# EAGLE library part XC3S*-144 (library jt-xilinx)
Xilinx Spartan 3E FPGA, 144 pin
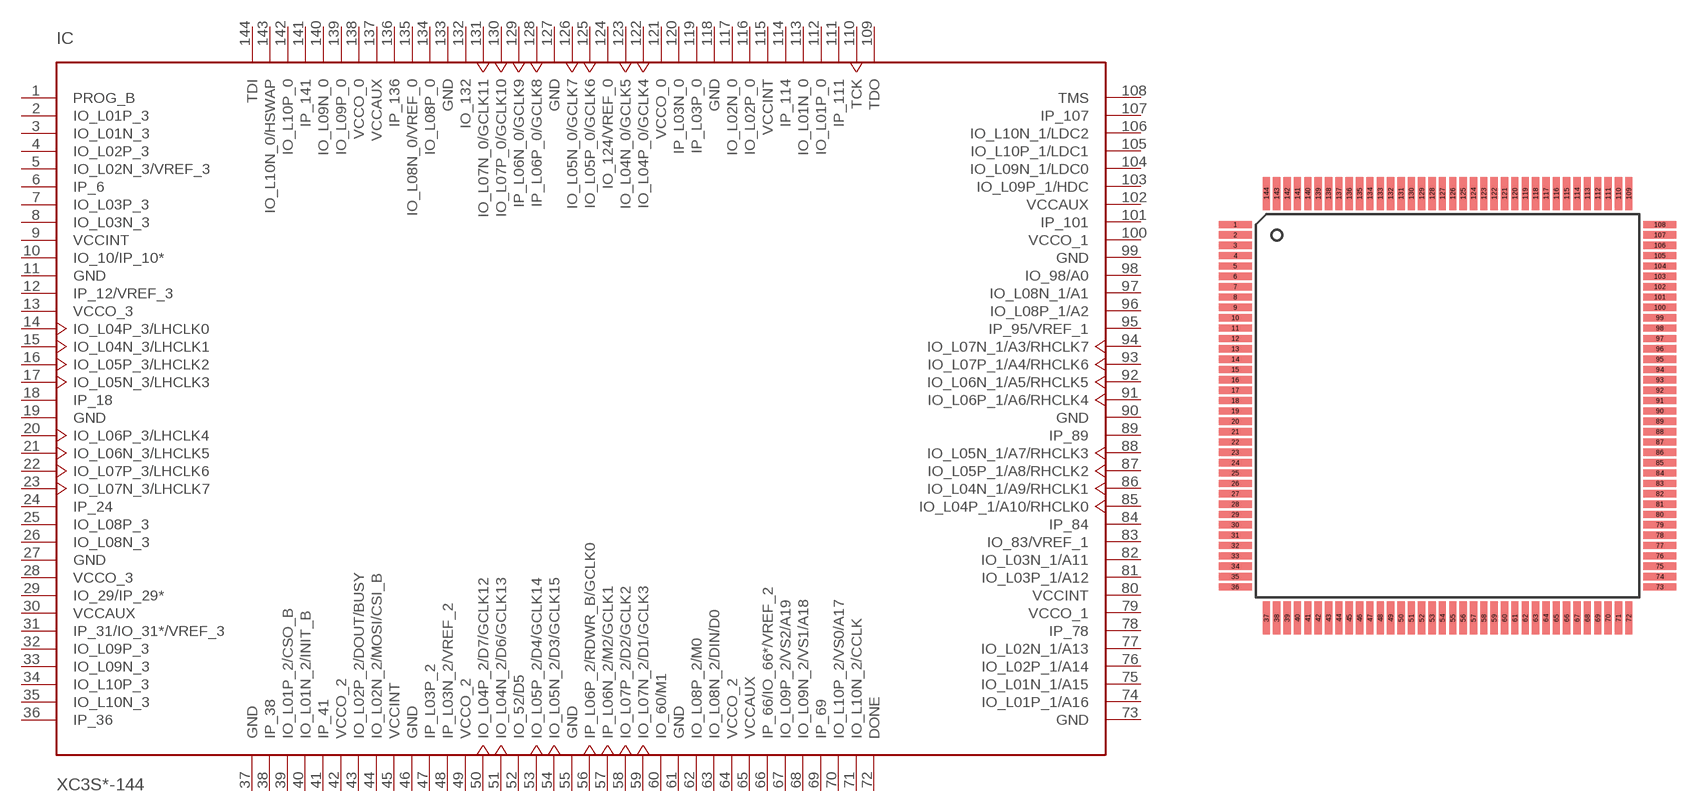
[diagram p0: symbol with the pads of TQ144; footprint TQ144]

Designator prefix IC

## XC3S100E-144, XC3S250E-144  [TQ144]
1  PROG_B
2  IO_L01P_3
3  IO_L01N_3
4  IO_L02P_3
5  IO_L02N_3/VREF_3
6  IP_6  in
7  IO_L03P_3
8  IO_L03N_3
9  VCCINT  pwr
10  IO_10/IP_10*  in
11  GND  pwr
12  IP_12/VREF_3  in
13  VCCO_3  pwr
14  IO_L04P_3/LHCLK0
15  IO_L04N_3/LHCLK1
16  IO_L05P_3/LHCLK2
17  IO_L05N_3/LHCLK3
18  IP_18  in
19  GND  pwr
20  IO_L06P_3/LHCLK4
21  IO_L06N_3/LHCLK5
22  IO_L07P_3/LHCLK6
23  IO_L07N_3/LHCLK7
24  IP_24  in
25  IO_L08P_3
26  IO_L08N_3
27  GND  pwr
28  VCCO_3  pwr
29  IO_29/IP_29*  in
30  VCCAUX  pwr
31  IP_31/IO_31*/VREF_3  in
32  IO_L09P_3
33  IO_L09N_3
34  IO_L10P_3
35  IO_L10N_3
36  IP_36  in
37  GND  pwr
38  IP_38  in
39  IO_L01P_2/CSO_B
40  IO_L01N_2/INIT_B
41  IP_41  in
42  VCCO_2  pwr
43  IO_L02P_2/DOUT/BUSY
44  IO_L02N_2/MOSI/CSI_B
45  VCCINT  pwr
46  GND  pwr
47  IP_L03P_2  in
48  IP_L03N_2/VREF_2  in
49  VCCO_2  pwr
50  IO_L04P_2/D7/GCLK12
51  IO_L04N_2/D6/GCLK13
52  IO_52/D5
53  IO_L05P_2/D4/GCLK14
54  IO_L05N_2/D3/GCLK15
55  GND  pwr
56  IP_L06P_2/RDWR_B/GCLK0  in
57  IP_L06N_2/M2/GCLK1  in
58  IO_L07P_2/D2/GCLK2
59  IO_L07N_2/D1/GCLK3
60  IO_60/M1
61  GND  pwr
62  IO_L08P_2/M0
63  IO_L08N_2/DIN/D0
64  VCCO_2  pwr
65  VCCAUX  pwr
66  IP_66/IO_66*/VREF_2  in
67  IO_L09P_2/VS2/A19
68  IO_L09N_2/VS1/A18
69  IP_69  in
70  IO_L10P_2/VS0/A17
71  IO_L10N_2/CCLK
72  DONE
73  GND  pwr
74  IO_L01P_1/A16
75  IO_L01N_1/A15
76  IO_L02P_1/A14
77  IO_L02N_1/A13
78  IP_78  in
79  VCCO_1  pwr
80  VCCINT  pwr
81  IO_L03P_1/A12
82  IO_L03N_1/A11
83  IO_83/VREF_1
84  IP_84  in
85  IO_L04P_1/A10/RHCLK0
86  IO_L04N_1/A9/RHCLK1
87  IO_L05P_1/A8/RHCLK2
88  IO_L05N_1/A7/RHCLK3
89  IP_89  in
90  GND  pwr
91  IO_L06P_1/A6/RHCLK4
92  IO_L06N_1/A5/RHCLK5
93  IO_L07P_1/A4/RHCLK6
94  IO_L07N_1/A3/RHCLK7
95  IP_95/VREF_1  in
96  IO_L08P_1/A2
97  IO_L08N_1/A1
98  IO_98/A0
99  GND  pwr
100  VCCO_1  pwr
101  IP_101  in
102  VCCAUX  pwr
103  IO_L09P_1/HDC
104  IO_L09N_1/LDC0
105  IO_L10P_1/LDC1
106  IO_L10N_1/LDC2
107  IP_107  in
108  TMS  in
109  TDO  out
110  TCK  in
111  IP_111  in
112  IO_L01P_0
113  IO_L01N_0
114  IP_114  in
115  VCCINT  pwr
116  IO_L02P_0
117  IO_L02N_0
118  GND  pwr
119  IP_L03P_0  in
120  IP_L03N_0  in
121  VCCO_0  pwr
122  IO_L04P_0/GCLK4
123  IO_L04N_0/GCLK5
124  IO_124/VREF_0
125  IO_L05P_0/GCLK6
126  IO_L05N_0/GCLK7
127  GND  pwr
128  IP_L06P_0/GCLK8  in
129  IP_L06N_0/GCLK9  in
130  IO_L07P_0/GCLK10
131  IO_L07N_0/GCLK11
132  IO_132
133  GND  pwr
134  IO_L08P_0
135  IO_L08N_0/VREF_0
136  IP_136  in
137  VCCAUX  pwr
138  VCCO_0  pwr
139  IO_L09P_0
140  IO_L09N_0
141  IP_141  in
142  IO_L10P_0
143  IO_L10N_0/HSWAP
144  TDI  in

## Footprint TQ144 (pad centres in mm)
Xilinx TQ144/TQG144
smd 1.6 x 0.35: 1 -10.25,8.75; 2 -10.25,8.25; 3 -10.25,7.75; 4 -10.25,7.25; 5 -10.25,6.75; 6 -10.25,6.25; 7 -10.25,5.75; 8 -10.25,5.25; 9 -10.25,4.75; 10 -10.25,4.25; 11 -10.25,3.75; 12 -10.25,3.25; 13 -10.25,2.75; 14 -10.25,2.25; 15 -10.25,1.75; 16 -10.25,1.25; 17 -10.25,0.75; 18 -10.25,0.25; 19 -10.25,-0.25; 20 -10.25,-0.75; 21 -10.25,-1.25; 22 -10.25,-1.75; 23 -10.25,-2.25; 24 -10.25,-2.75; 25 -10.25,-3.25; 26 -10.25,-3.75; 27 -10.25,-4.25; 28 -10.25,-4.75; 29 -10.25,-5.25; 30 -10.25,-5.75; 31 -10.25,-6.25; 32 -10.25,-6.75; 33 -10.25,-7.25; 34 -10.25,-7.75; 35 -10.25,-8.25; 36 -10.25,-8.75; 73 10.25,-8.75; 74 10.25,-8.25; 75 10.25,-7.75; 76 10.25,-7.25; 77 10.25,-6.75; 78 10.25,-6.25; 79 10.25,-5.75; 80 10.25,-5.25; 81 10.25,-4.75; 82 10.25,-4.25; 83 10.25,-3.75; 84 10.25,-3.25; 85 10.25,-2.75; 86 10.25,-2.25; 87 10.25,-1.75; 88 10.25,-1.25; 89 10.25,-0.75; 90 10.25,-0.25; 91 10.25,0.25; 92 10.25,0.75; 93 10.25,1.25; 94 10.25,1.75; 95 10.25,2.25; 96 10.25,2.75; 97 10.25,3.25; 98 10.25,3.75; 99 10.25,4.25; 100 10.25,4.75; 101 10.25,5.25; 102 10.25,5.75; 103 10.25,6.25; 104 10.25,6.75; 105 10.25,7.25; 106 10.25,7.75; 107 10.25,8.25; 108 10.25,8.75
smd 0.35 x 1.6: 37 -8.75,-10.25; 38 -8.25,-10.25; 39 -7.75,-10.25; 40 -7.25,-10.25; 41 -6.75,-10.25; 42 -6.25,-10.25; 43 -5.75,-10.25; 44 -5.25,-10.25; 45 -4.75,-10.25; 46 -4.25,-10.25; 47 -3.75,-10.25; 48 -3.25,-10.25; 49 -2.75,-10.25; 50 -2.25,-10.25; 51 -1.75,-10.25; 52 -1.25,-10.25; 53 -0.75,-10.25; 54 -0.25,-10.25; 55 0.25,-10.25; 56 0.75,-10.25; 57 1.25,-10.25; 58 1.75,-10.25; 59 2.25,-10.25; 60 2.75,-10.25; 61 3.25,-10.25; 62 3.75,-10.25; 63 4.25,-10.25; 64 4.75,-10.25; 65 5.25,-10.25; 66 5.75,-10.25; 67 6.25,-10.25; 68 6.75,-10.25; 69 7.25,-10.25; 70 7.75,-10.25; 71 8.25,-10.25; 72 8.75,-10.25; 109 8.75,10.25; 110 8.25,10.25; 111 7.75,10.25; 112 7.25,10.25; 113 6.75,10.25; 114 6.25,10.25; 115 5.75,10.25; 116 5.25,10.25; 117 4.75,10.25; 118 4.25,10.25; 119 3.75,10.25; 120 3.25,10.25; 121 2.75,10.25; 122 2.25,10.25; 123 1.75,10.25; 124 1.25,10.25; 125 0.75,10.25; 126 0.25,10.25; 127 -0.25,10.25; 128 -0.75,10.25; 129 -1.25,10.25; 130 -1.75,10.25; 131 -2.25,10.25; 132 -2.75,10.25; 133 -3.25,10.25; 134 -3.75,10.25; 135 -4.25,10.25; 136 -4.75,10.25; 137 -5.25,10.25; 138 -5.75,10.25; 139 -6.25,10.25; 140 -6.75,10.25; 141 -7.25,10.25; 142 -7.75,10.25; 143 -8.25,10.25; 144 -8.75,10.25